# Altium footprint library CP_SMD_8x10.PcbLib: 1 footprints
Each footprint in its own frame and in the unit in brackets; x right, y up, seen from the top. Pads: shape width x height; smd on the part's side, far side on the other; paste and mask are expansions set on the pad; w line width, h text height; cw(c..) or ccw(c..) is an arc to the next point about the centre after c.
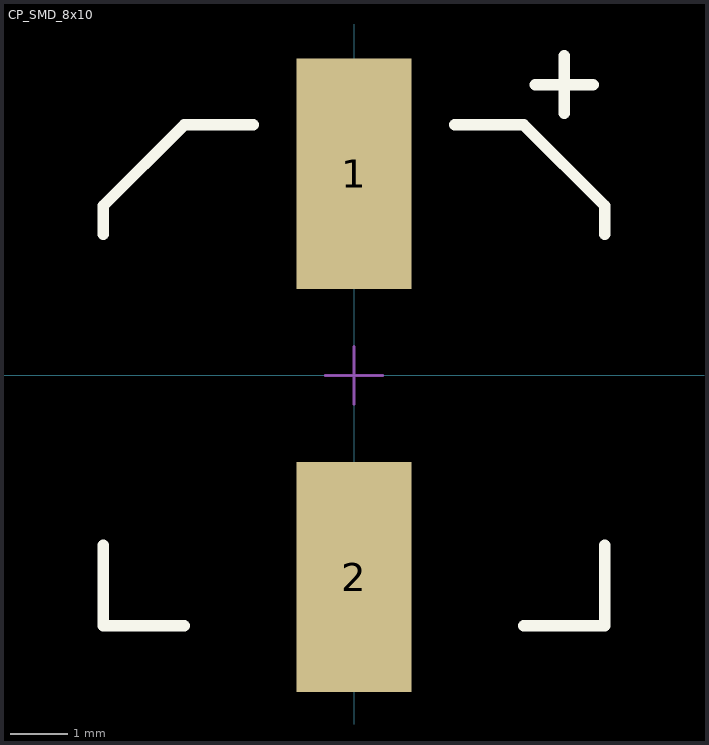
[diagram p0: the footprint, top view; thin cyan lines are the x and y axes]

## CP_SMD_8x10 [mm] "8x10 SMD capacitor"
pads (2):
  rect 2x4 smd: 1(0,3.5) 2(0,-3.5)
Top Overlay:
  lines w0.2: -4.35,-2.95 -4.35,-4.35 -2.95,-4.35 ; -4.35,2.45 -4.35,2.95 -2.95,4.35 -1.75,4.35 ; 1.75,4.35 2.95,4.35 4.35,2.95 4.35,2.45 ; 2.95,-4.35 4.35,-4.35 4.35,-2.95 ; 3.15,5.05 4.15,5.05 ; 3.65,4.55 3.65,5.55
Mechanical 15:
  lines w0.05: -0.5,0 0.5,0 ; 0,-0.5 0,0.5
3D body "PCAP_8x10-ELECT_NCA.step": height 10.34, standoff 0, extent -4.254,-4.648 4.254,4.648